# Altium schematic symbol library APHD1608LCGCK.SchLib: 1 symbol
Pins are listed as number, name and electrical type; pins without a type are passive.

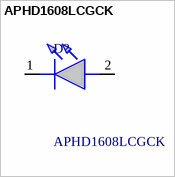
[diagram p0: symbol APHD1608LCGCK]

## APHD1608LCGCK
designator D?
Standard LEDs - SMD 0603 Dome Lens LED Green- 570nm; Manufacturer_Name: Kingbright; Geometry.Height: 0.8mm; Mouser Part Number: 604-APHD1608LCGCK; Mouser Price/Stock: https://www.mouser.co.uk/ProductDetail/Kingbright/APHD1608LCGCK?qs=AQlKX63v8RvqPbV1LDSVuw%3D%3D; Manufacturer_Part_Number: APHD1608LCGCK; Datasheet Link: http://www.kingbrightusa.com/images/catalog/SPEC/APHD1608LCGCK.pdf
footprint LEDM168X80N
pins: 1 K, 2 A